# Altium footprint library 22-28-4050.PcbLib: 1 footprints
Each footprint in its own frame and in the unit in brackets; x right, y up, seen from the top. Pads: shape width x height; smd on the part's side, far side on the other; paste and mask are expansions set on the pad; w line width, h text height; cw(c..) or ccw(c..) is an arc to the next point about the centre after c.
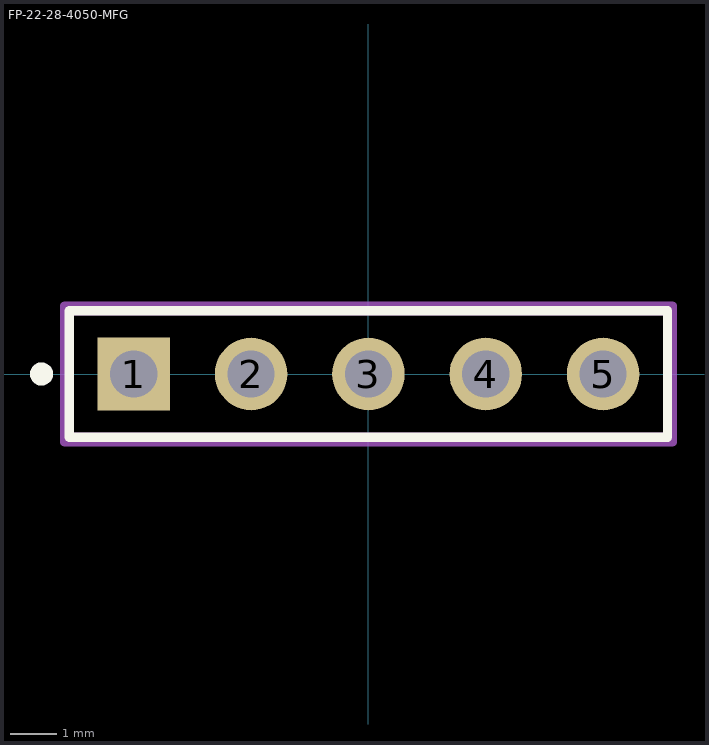
[diagram p0: the footprint, top view; thin cyan lines are the x and y axes]

## FP-22-28-4050-MFG [mm]
pads (5):
  rect 1.57x1.57 hole 1.02 paste-2539.97 mask+0: 1(-5.08,0)
  round 1.57 hole 1.02 paste-2539.97 mask+0: 2(-2.54,0) 3(0,0) 4(2.54,0) 5(5.08,0)
Top Overlay:
  circle w0.25: c-7.075,0 r0.125
  lines w0.2: -6.475,-1.37 -6.475,1.37 6.475,1.37 6.475,-1.37 -6.475,-1.37
Top Assembly:
  lines w0.2: -6.575,-1.47 -6.575,1.47 6.575,1.47 6.575,-1.47 -6.575,-1.47
  text ".Designator" at 0,0.188 h1
Top 3D Body:
  lines w0.2: -6.475,-1.37 -6.475,1.37 6.475,1.37 6.475,-1.37 -6.475,-1.37
Top Courtyard:
  lines w0.2: -6.575,-1.47 -6.575,1.47 6.575,1.47 6.575,-1.47 -6.575,-1.47
Top Component Center:
  lines w0.1: -0.5,0 0.5,0 ; 0,-0.5 0,0.5
3D body "Conn_Molex_22-28-4050_eec.STEP": height 0.25, standoff 0, extent -6.575,-1.47 6.575,1.47